# Altium footprint library SocketLoopCircle.PcbLib: 1 footprints
Each footprint in its own frame and in the unit in brackets; x right, y up, seen from the top. Pads: shape width x height; smd on the part's side, far side on the other; paste and mask are expansions set on the pad; w line width, h text height; cw(c..) or ccw(c..) is an arc to the next point about the centre after c.
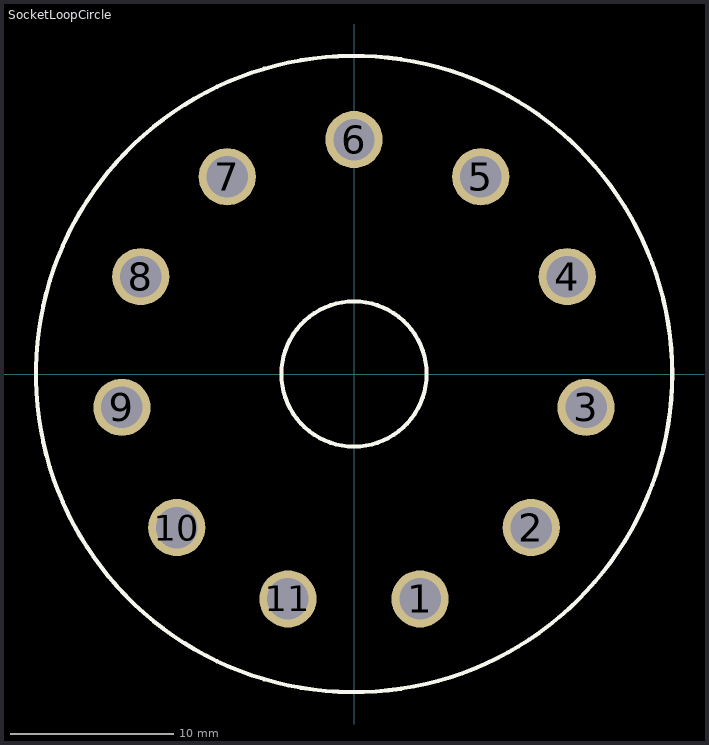
[diagram p0: the footprint, top view; thin cyan lines are the x and y axes]

## SocketLoopCircle [mm]
pads (11):
  round 3.5 hole 2.54: 1(4.043,-13.769) 2(10.845,-9.397) 3(14.204,-2.042) 4(13.053,5.961) 5(7.758,12.072) 6(0,14.35) 7(-7.758,12.072) 8(-13.053,5.961) 9(-14.204,-2.042) 10(-10.845,-9.397) 11(-4.043,-13.769)
Top Overlay:
  circle w0.254: c0,0 r19.475
  circle w0.254: c0,0 r4.445